# Altium footprint library COOLCONTROL.PcbLib: 95 footprints (part 5 of 6)
Each footprint in its own frame and in the unit in brackets; x right, y up, seen from the top. Pads: shape width x height; smd on the part's side, far side on the other; paste and mask are expansions set on the pad; w line width, h text height; cw(c..) or ccw(c..) is an arc to the next point about the centre after c.
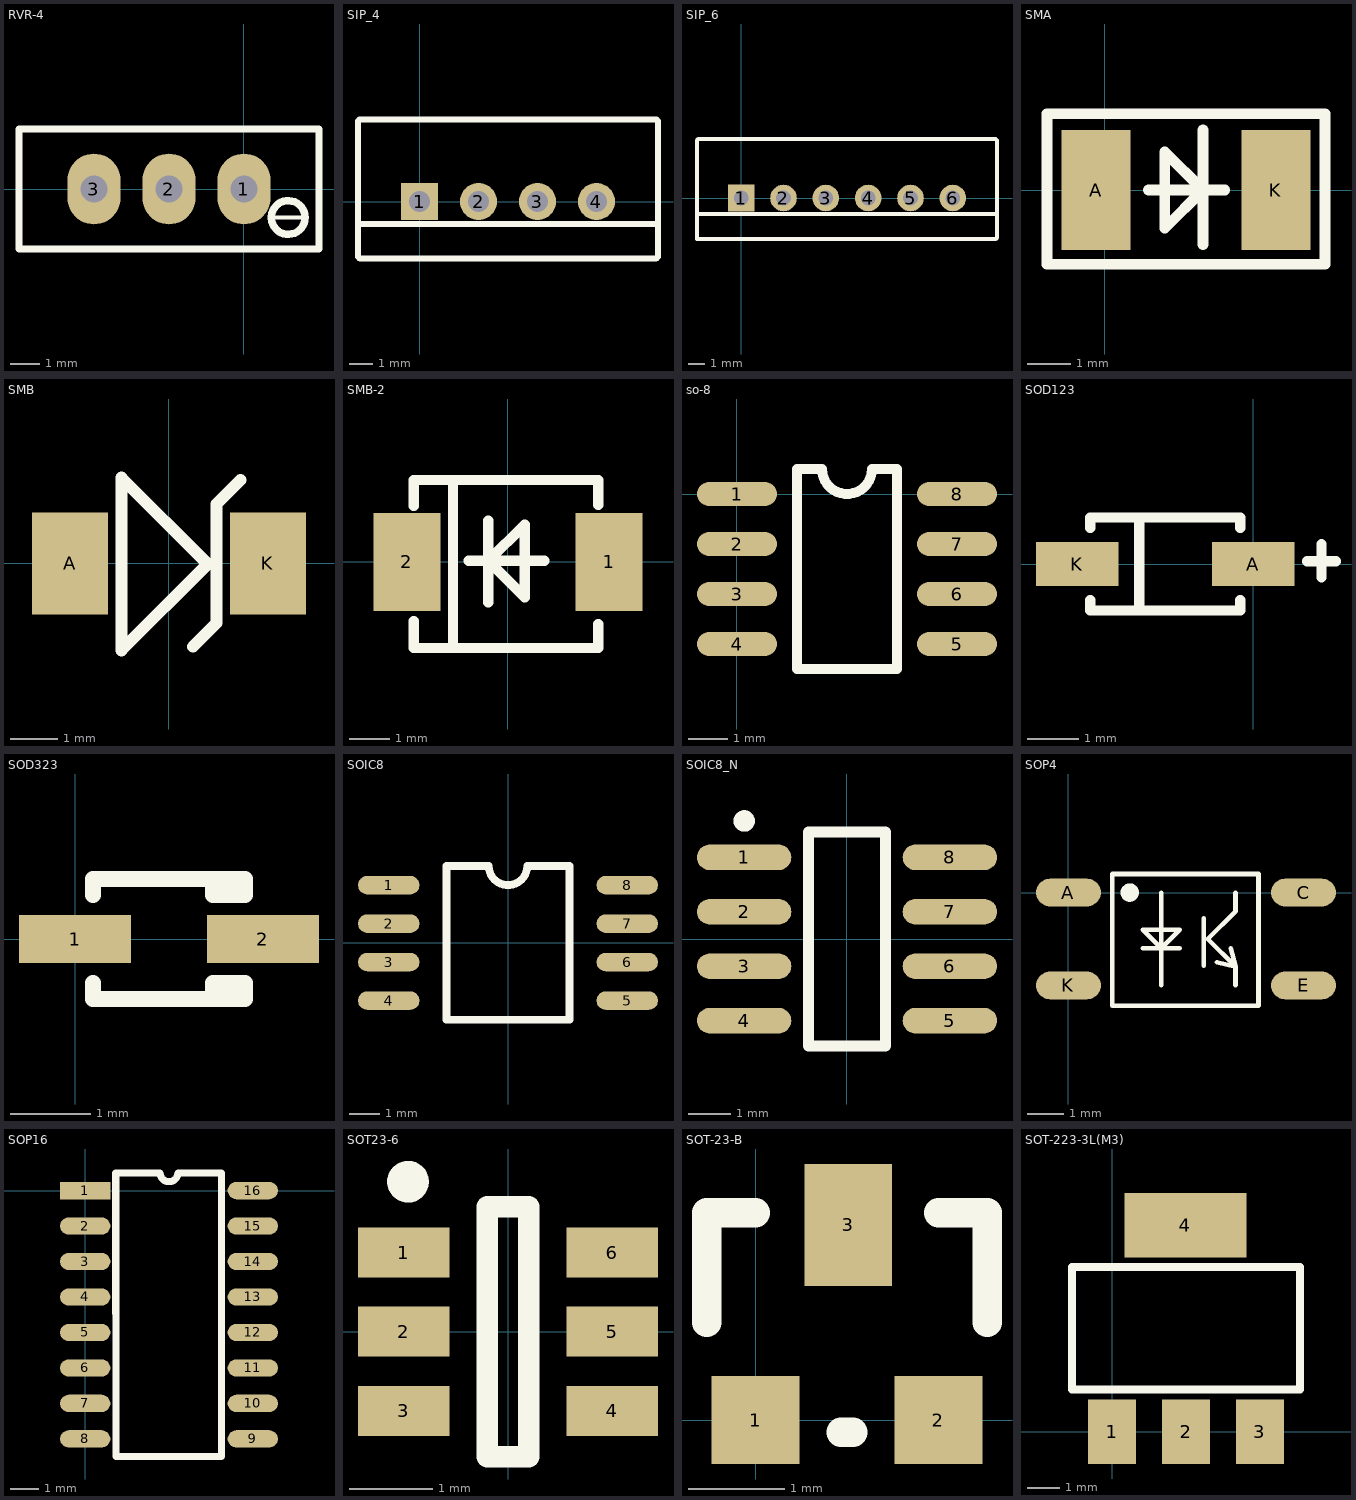
[diagram p4: the footprints below, top view; thin cyan lines are the x and y axes]

## RVR-4 [mm]
pads (3):
  oval 1.8x2.4 hole 0.9: 1(0,0) 2(-2.54,0) 3(-5.08,0)
Top Overlay:
  circle w0.254: c1.499,-0.965 r0.571
  lines w0.127: 0.94,-0.965 2.069,-0.965
  lines w0.24: -7.62,-2.032 2.54,-2.032 2.54,2.032 -7.62,2.032 -7.62,-2.032

## SIP_4 [mm]
pads (4):
  rect 1.6x1.6 hole 0.889: 1(0,0)
  round 1.6 hole 0.889: 2(2.54,0) 3(5.08,0) 4(7.62,0)
Top Overlay:
  lines w0.254: -2.65,-0.965 10.245,-0.965 ; -1.575,-2.46 9.119,-2.46 ; -1.549,-2.46 -2.569,-2.46 -2.65,-2.379 -2.65,-1.245 -2.65,1.321 -2.65,3.463 -2.573,3.54 -1.473,3.54 ; -1.524,3.54 9.119,3.54 10.201,3.54 10.27,3.471 10.27,1.93 10.27,-1.245 10.27,-2.379 10.189,-2.46 9.093,-2.46

## SIP_6 [mm]
pads (6):
  rect 1.6x1.6 hole 0.889: 1(0,0)
  round 1.6 hole 0.889: 2(2.54,0) 3(5.08,0) 4(7.62,0) 5(10.16,0) 6(12.7,0)
Top Overlay:
  lines w0.254: -2.65,-0.965 15.325,-0.965 ; -1.524,3.54 14.148,3.54 15.256,3.54 15.35,3.446 15.35,1.448 15.35,-1.524 15.35,-2.379 15.269,-2.46 14.148,-2.46 -1.524,-2.46 -2.645,-2.46 -2.65,-2.455 -2.65,-1.524 -2.65,1.524 -2.65,3.471 -2.581,3.54 -1.499,3.54

## SMA [mil] "DO-214AC(2010)"
pads (2):
  rect 63x110 smd: A(-8,0) K(157,0)
Top Overlay:
  lines w10: 40,0 110,0 ; 90,-50 90,55 ; -53,-68 -53,70 202,70 202,-68 -53,-68 ; 55,-35 55,35 90,0 55,-35
3D body "DO-214AC.STEP": height 94.49, standoff 0, extent -15.55,-53.3 165.56,53

## SMB [mm]
pads (2):
  rect 1.62x2.18 smd: A(-2.11,0) K(2.11,0)
Top Overlay:
  lines w0.254: 0.508,-1.778 1.016,-1.27 1.016,1.27 1.524,1.778 ; -1.016,-1.854 -1.016,1.829 0.826,-0.012 -1.016,-1.854

## SMB-2 [mm] "DO-214AA"
pads (2):
  rect 1.65x2.4 smd: 1(2.475,0) 2(-2.475,0)
Top Overlay:
  lines w0.254: -2.311,-1.448 -2.311,-2.108 2.21,-2.108 2.21,-1.524 ; -2.311,1.372 -2.311,2.007 2.21,2.007 2.21,1.397 ; -1.346,-2.032 -1.346,2.007 ; -0.965,0.025 0.889,0.025 ; -0.483,-0.991 -0.483,1.016 ; -0.483,0.025 0.406,0.914 0.406,-0.864 -0.483,0.025
3D body "DI-214AA(SMB).step": height 2.45, standoff 0.03, extent -2.75,-1.975 2.75,1.925

## so-8 [mil]
pads (8):
  oval 80x24 smd: 1(0.24,0.13) 2(0.24,-49.87) 3(0.24,-99.87) 4(0.24,-149.87) 5(220.24,-149.87) 6(220.24,-99.87) 7(220.24,-49.87) 8(220.24,0.13)
Top Overlay:
  lines w10: 60.24,-174.87 60.24,25.13 85.24,25.13 ccw(c110.24,25.13) 135.24,25.13 160.24,25.13 160.24,-174.87 60.24,-174.87

## SOD123 [mm] "1206"
pads (2):
  rect 1.6x0.85 smd: A(0,0) K(-3.4,0)
Top Overlay:
  lines w0.2: -3.15,-0.7 -3.15,-0.9 -0.25,-0.9 -0.25,-0.7 ; -3.15,0.7 -3.15,0.9 -0.25,0.9 -0.25,0.7 ; -2.2,-0.9 -2.2,0.9 ; 1.043,0.051 1.602,0.051 ; 1.323,-0.254 1.323,0.381
3D body "User Library-SOD-123_DiodesInc.STEP": height 1.42, standoff -0.03, extent -3.596,-0.853 0.254,0.847

## SOD323 [mm] "0805"
pads (2):
  rect 1.4x0.6 smd: 1(0,0) 2(2.35,0)
Top Overlay:
  lines w0.2: 0.225,-0.55 0.225,-0.75 2.125,-0.75 2.125,-0.55 1.725,-0.55 1.725,-0.75 ; 0.225,0.55 0.225,0.75 2.125,0.75 2.125,0.55 1.725,0.55 1.725,0.75
3D body "SOD-323.STEP": height 1, standoff 0, extent -0.169,-0.667 2.431,0.633

## SOIC8 [mil]
pads (8):
  oval 80x24 smd: 1(-155,75) 2(-155,25) 3(-155,-25) 4(-155,-75) 5(155,-75) 6(155,-25) 7(155,25) 8(155,75)
Top Overlay:
  lines w10: -80,-100 80,-100 80,100 25,100 cw(c0,100) -25,100 -80,100 -80,-100
3D body "SOIC8.STEP": height 90.55, standoff -0.78, extent -167.2,-105.9 163.21,105.91

## SOIC8_N [mm]
pads (8):
  oval 2.2x0.6 smd: 1(-2.4,1.905) 2(-2.4,0.635) 3(-2.4,-0.635) 4(-2.4,-1.905) 5(2.4,-1.905) 6(2.4,-0.635) 7(2.4,0.635) 8(2.4,1.905)
Top Overlay:
  circle w0.25: c-2.4,2.755 r0.125
  lines w0.254: -0.9,-2.5 0.9,-2.5 0.9,2.5 -0.9,2.5 -0.9,-2.5

## SOP4 [mil] "AQY211G2S"
pads (4):
  oval 70x30 smd: A(0,0) C(253.23,0) E(253.23,-100) K(0,-100)
Top Overlay:
  circle w10: c65.94,0 r4.92
  lines w5: 80,-60 120,-60 ; 100,-100 100,0 ; 145.67,-78.74 145.67,-27.56 ; 160,-75 180,-80 ; 175,-60 180,-80 ; 180,-100 180,-80 ; 180,0 180,-20 150,-50 180,-80 ; 47.24,-121.73 204.72,-121.73 204.72,20 47.24,20 47.24,-121.73 ; 80,-40 100,-60 120,-40 80,-40
3D body "User Library-HCPL-181-1.STEP": height 78.74, standoff -3.96, extent -7.87,-122.05 267.72,19.69

## SOP16 [mm]
pads (16):
  rect 1.8x0.62 smd: 1(0,0)
  oval 1.8x0.62 smd: 2(0,-1.27) 3(0,-2.54) 4(0,-3.81) 5(0,-5.08) 6(0,-6.35) 7(0,-7.62) 8(0,-8.89) 9(6,-8.89) 10(6,-7.62) 11(6,-6.35) 12(6,-5.08) 13(6,-3.81) 14(6,-2.54) 15(6,-1.27) 16(6,0)
Top Overlay:
  lines w0.254: 1.092,0.635 2.682,0.635 ccw(c3,0.635) 3.317,0.635 4.877,0.635 4.877,-9.525 1.1,-9.525 1.092,0.635

## SOT23-6 [mm]
pads (6):
  rect 1.1x0.6 smd: 1(-1.25,0.95) 2(-1.25,0) 3(-1.25,-0.95) 4(1.25,-0.95) 5(1.25,0) 6(1.25,0.95)
Top Overlay:
  circle w0.25: c-1.2,1.8 r0.125
  lines w0.254: -0.25,-1.5 -0.25,1.5 0.25,1.5 0.25,-1.5 -0.25,-1.5

## SOT-23-B [mil]
pads (3):
  rect 36x36 smd: 1(0,0) 2(75,0)
  rect 36x50 smd: 3(38,80)
Top Overlay:
  lines w12: -20,40 -20,85 0,85 ; 35,-5 40,-5 ; 75,85 95,85 95,40

## SOT-223-3L(M3) [mil]
pads (4):
  rect 59x79 smd: 1(0,0) 2(90.55,0) 3(181.1,0)
  rect 150x79 smd: 4(89.88,253.54)
Top Overlay:
  lines w10: -49.45,52 -49.45,202 230.55,202 230.55,52 -49.45,52